# Altium schematic symbol library BC857C.SchLib: 1 symbol
Pins are listed as number, name and electrical type; pins without a type are passive.

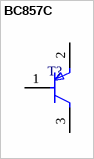
[diagram p0: symbol BC857C]

## BC857C
designator T?  (value not drawn)
footprint SOT23-3
pins: 1 B, 2 E, 3 C